# Altium schematic symbol library 音频功放自画库.SchLib: 2 symbols
Pins are listed as number, name and electrical type; pins without a type are passive.

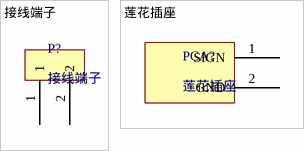
[diagram p0: symbols 接线端子 to 莲花插座]

## 接线端子
designator P?
footprint 接线端子
pins: 1, 2

## 莲花插座
designator PCA?
footprint 莲花母座 (莲花插座)
pins: 1 SIGN, 2 GND